# Altium schematic symbol library SCH - POWER - SWITCHMODE - TI TPS82695_SIP_8.SchLib: 1 symbol
Pins are listed as number, name and electrical type; pins without a type are passive.

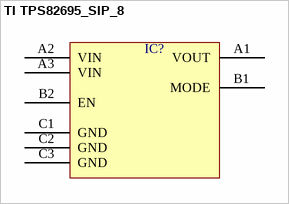
[diagram p0: symbol TI TPS82695_SIP_8]

## TI TPS82695_SIP_8
designator IC?  (value not drawn)
pins: A1 VOUT, A2 VIN, A3 VIN, B1 MODE, B2 EN, C1 GND, C2 GND, C3 GND